# EAGLE library part MCP2562-E/P (library Microchip-MCP2562-E_P)
High-Speed CAN Transceiver,DIP-8
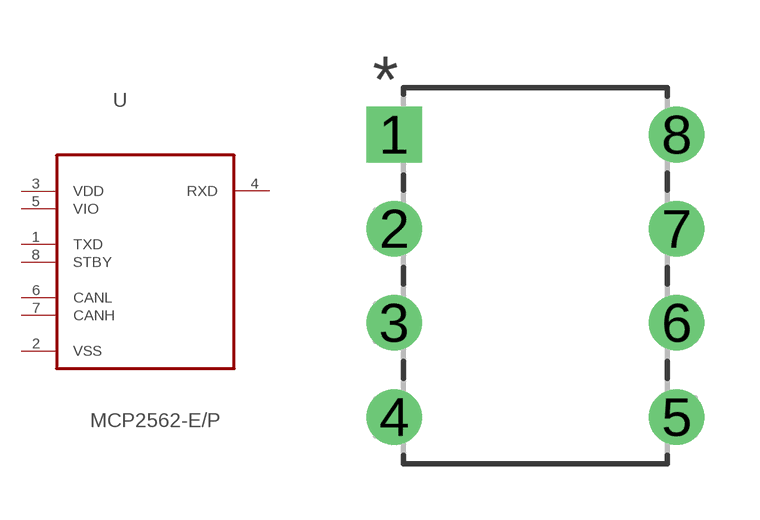
[diagram p0: symbol with the pads of DIP254P762X533-8; footprint DIP254P762X533-8]

Designator prefix U

## MCP2562-E/P (MPN: MCP2562-E/P; OC_FARNELL: 2362838; OC_NEWARK: 85W9073; PACKAGE: DIP-8; SUPPLIER: MICROCHIP)  [DIP254P762X533-8]
1  TXD  in
2  VSS  pwr
3  VDD  pwr
4  RXD  out
5  VIO  pwr
6  CANL
7  CANH
8  STBY  in

## Footprint DIP254P762X533-8 (pad centres in mm)
drill 0.991 square: 1 -7.62,7.62
drill 0.991: 2 -7.62,5.08; 3 -7.62,2.54; 4 -7.62,0; 5 0,0; 6 0,2.54; 7 0,5.08; 8 0,7.62